# Altium footprint library plxtech.PCBLIB: 5 footprints
Each footprint in its own frame and in the unit in brackets; x right, y up, seen from the top. Pads: shape width x height; smd on the part's side, far side on the other; paste and mask are expansions set on the pad; w line width, h text height; cw(c..) or ccw(c..) is an arc to the next point about the centre after c.
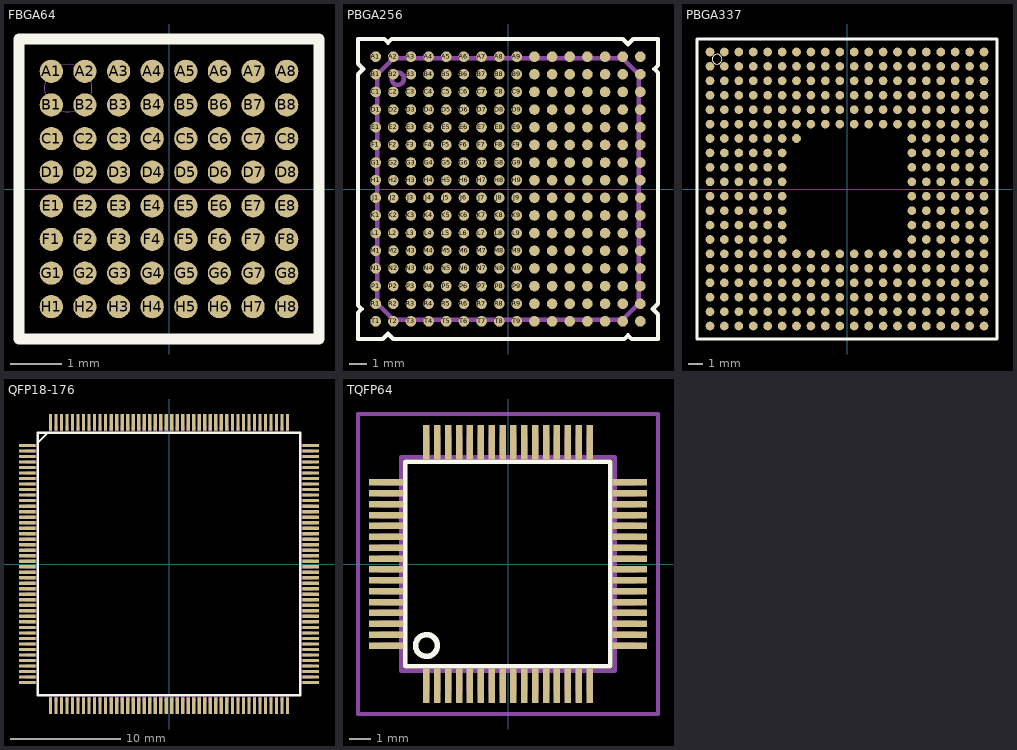
[diagram p0: the footprints below, top view; thin cyan lines are the x and y axes]

## FBGA64 [mm]
pads (64):
  rrect100% 0.45x0.45 smd: A1(-2.275,2.275) A2(-1.625,2.275) A3(-0.975,2.275) A4(-0.325,2.275) A5(0.325,2.275) A6(0.975,2.275) A7(1.625,2.275) A8(2.275,2.275) B1(-2.275,1.625) B2(-1.625,1.625) B3(-0.975,1.625) B4(-0.325,1.625) B5(0.325,1.625) B6(0.975,1.625) B7(1.625,1.625) B8(2.275,1.625) C1(-2.275,0.975) C2(-1.625,0.975) C3(-0.975,0.975) C4(-0.325,0.975) C5(0.325,0.975) C6(0.975,0.975) C7(1.625,0.975) C8(2.275,0.975) D1(-2.275,0.325) D2(-1.625,0.325) D3(-0.975,0.325) D4(-0.325,0.325) D5(0.325,0.325) D6(0.975,0.325) D7(1.625,0.325) D8(2.275,0.325) E1(-2.275,-0.325) E2(-1.625,-0.325) E3(-0.975,-0.325) E4(-0.325,-0.325) E5(0.325,-0.325) E6(0.975,-0.325) E7(1.625,-0.325) E8(2.275,-0.325) F1(-2.275,-0.975) F2(-1.625,-0.975) F3(-0.975,-0.975) F4(-0.325,-0.975) F5(0.325,-0.975) F6(0.975,-0.975) F7(1.625,-0.975) F8(2.275,-0.975) G1(-2.275,-1.625) G2(-1.625,-1.625) G3(-0.975,-1.625) G4(-0.325,-1.625) G5(0.325,-1.625) G6(0.975,-1.625) G7(1.625,-1.625) G8(2.275,-1.625) H1(-2.275,-2.275) H2(-1.625,-2.275) H3(-0.975,-2.275) H4(-0.325,-2.275) H5(0.325,-2.275) H6(0.975,-2.275) H7(1.625,-2.275) H8(2.275,-2.275)
Top Overlay:
  lines w0.203: -2.9,-2.9 2.9,-2.9 2.9,2.9 -2.9,2.9 -2.9,-2.9
Top Paste:
  circle w0: c-2.275,2.275 r0.175
  circle w0: c-2.275,1.625 r0.175
  circle w0: c-2.275,0.975 r0.175
  circle w0: c-2.275,0.325 r0.175
  circle w0: c-2.275,-0.325 r0.175
  circle w0: c-2.275,-0.975 r0.175
  circle w0: c-2.275,-1.625 r0.175
  circle w0: c-2.275,-2.275 r0.175
  circle w0: c-1.625,2.275 r0.175
  circle w0: c-1.625,1.625 r0.175
  circle w0: c-1.625,0.975 r0.175
  circle w0: c-1.625,0.325 r0.175
  circle w0: c-1.625,-0.325 r0.175
  circle w0: c-1.625,-0.975 r0.175
  circle w0: c-1.625,-1.625 r0.175
  circle w0: c-1.625,-2.275 r0.175
  circle w0: c-0.975,2.275 r0.175
  circle w0: c-0.975,1.625 r0.175
  circle w0: c-0.975,0.975 r0.175
  circle w0: c-0.975,0.325 r0.175
  circle w0: c-0.975,-0.325 r0.175
  circle w0: c-0.975,-0.975 r0.175
  circle w0: c-0.975,-1.625 r0.175
  circle w0: c-0.975,-2.275 r0.175
  circle w0: c-0.325,2.275 r0.175
  circle w0: c-0.325,1.625 r0.175
  circle w0: c-0.325,0.975 r0.175
  circle w0: c-0.325,0.325 r0.175
  circle w0: c-0.325,-0.325 r0.175
  circle w0: c-0.325,-0.975 r0.175
  circle w0: c-0.325,-1.625 r0.175
  circle w0: c-0.325,-2.275 r0.175
  circle w0: c0.325,2.275 r0.175
  circle w0: c0.325,1.625 r0.175
  circle w0: c0.325,0.975 r0.175
  circle w0: c0.325,0.325 r0.175
  circle w0: c0.325,-0.325 r0.175
  circle w0: c0.325,-0.975 r0.175
  circle w0: c0.325,-1.625 r0.175
  circle w0: c0.325,-2.275 r0.175
  circle w0: c0.975,2.275 r0.175
  circle w0: c0.975,1.625 r0.175
  circle w0: c0.975,0.975 r0.175
  circle w0: c0.975,0.325 r0.175
  circle w0: c0.975,-0.325 r0.175
  circle w0: c0.975,-0.975 r0.175
  circle w0: c0.975,-1.625 r0.175
  circle w0: c0.975,-2.275 r0.175
  circle w0: c1.625,2.275 r0.175
  circle w0: c1.625,1.625 r0.175
  circle w0: c1.625,0.975 r0.175
  circle w0: c1.625,0.325 r0.175
  circle w0: c1.625,-0.325 r0.175
  circle w0: c1.625,-0.975 r0.175
  circle w0: c1.625,-1.625 r0.175
  circle w0: c1.625,-2.275 r0.175
  circle w0: c2.275,2.275 r0.175
  circle w0: c2.275,1.625 r0.175
  circle w0: c2.275,0.975 r0.175
  circle w0: c2.275,0.325 r0.175
  circle w0: c2.275,-0.325 r0.175
  circle w0: c2.275,-0.975 r0.175
  circle w0: c2.275,-1.625 r0.175
  circle w0: c2.275,-2.275 r0.175
Top Solder:
  circle w0: c-2.275,2.275 r0.25
  circle w0: c-2.275,1.625 r0.25
  circle w0: c-2.275,0.975 r0.25
  circle w0: c-2.275,0.325 r0.25
  circle w0: c-2.275,-0.325 r0.25
  circle w0: c-2.275,-0.975 r0.25
  circle w0: c-2.275,-1.625 r0.25
  circle w0: c-2.275,-2.275 r0.25
  circle w0: c-1.625,2.275 r0.25
  circle w0: c-1.625,1.625 r0.25
  circle w0: c-1.625,0.975 r0.25
  circle w0: c-1.625,0.325 r0.25
  circle w0: c-1.625,-0.325 r0.25
  circle w0: c-1.625,-0.975 r0.25
  circle w0: c-1.625,-1.625 r0.25
  circle w0: c-1.625,-2.275 r0.25
  circle w0: c-0.975,2.275 r0.25
  circle w0: c-0.975,1.625 r0.25
  circle w0: c-0.975,0.975 r0.25
  circle w0: c-0.975,0.325 r0.25
  circle w0: c-0.975,-0.325 r0.25
  circle w0: c-0.975,-0.975 r0.25
  circle w0: c-0.975,-1.625 r0.25
  circle w0: c-0.975,-2.275 r0.25
  circle w0: c-0.325,2.275 r0.25
  circle w0: c-0.325,1.625 r0.25
  circle w0: c-0.325,0.975 r0.25
  circle w0: c-0.325,0.325 r0.25
  circle w0: c-0.325,-0.325 r0.25
  circle w0: c-0.325,-0.975 r0.25
  circle w0: c-0.325,-1.625 r0.25
  circle w0: c-0.325,-2.275 r0.25
  circle w0: c0.325,2.275 r0.25
  circle w0: c0.325,1.625 r0.25
  circle w0: c0.325,0.975 r0.25
  circle w0: c0.325,0.325 r0.25
  circle w0: c0.325,-0.325 r0.25
  circle w0: c0.325,-0.975 r0.25
  circle w0: c0.325,-1.625 r0.25
  circle w0: c0.325,-2.275 r0.25
  circle w0: c0.975,2.275 r0.25
  circle w0: c0.975,1.625 r0.25
  circle w0: c0.975,0.975 r0.25
  circle w0: c0.975,0.325 r0.25
  circle w0: c0.975,-0.325 r0.25
  circle w0: c0.975,-0.975 r0.25
  circle w0: c0.975,-1.625 r0.25
  circle w0: c0.975,-2.275 r0.25
  circle w0: c1.625,2.275 r0.25
  circle w0: c1.625,1.625 r0.25
  circle w0: c1.625,0.975 r0.25
  circle w0: c1.625,0.325 r0.25
  circle w0: c1.625,-0.325 r0.25
  circle w0: c1.625,-0.975 r0.25
  circle w0: c1.625,-1.625 r0.25
  circle w0: c1.625,-2.275 r0.25
  circle w0: c2.275,2.275 r0.25
  circle w0: c2.275,1.625 r0.25
  circle w0: c2.275,0.975 r0.25
  circle w0: c2.275,0.325 r0.25
  circle w0: c2.275,-0.325 r0.25
  circle w0: c2.275,-0.975 r0.25
  circle w0: c2.275,-1.625 r0.25
  circle w0: c2.275,-2.275 r0.25
Mechanical 16:
  circle w0: c-1.95,1.95 r0.459

## PBGA256 [mm]
pads (256):
  rrect100% 0.6x0.6 smd: A1(-7.5,7.5) A2(-6.5,7.5) A3(-5.5,7.5) A4(-4.5,7.5) A5(-3.5,7.5) A6(-2.5,7.5) A7(-1.5,7.5) A8(-0.5,7.5) A9(0.5,7.5) A10(1.5,7.5) A11(2.5,7.5) A12(3.5,7.5) A13(4.5,7.5) A14(5.5,7.5) A15(6.5,7.5) A16(7.5,7.5) B1(-7.5,6.5) B2(-6.5,6.5) B3(-5.5,6.5) B4(-4.5,6.5) B5(-3.5,6.5) B6(-2.5,6.5) B7(-1.5,6.5) B8(-0.5,6.5) B9(0.5,6.5) B10(1.5,6.5) B11(2.5,6.5) B12(3.5,6.5) B13(4.5,6.5) B14(5.5,6.5) B15(6.5,6.5) B16(7.5,6.5) C1(-7.5,5.5) C2(-6.5,5.5) C3(-5.5,5.5) C4(-4.5,5.5) C5(-3.5,5.5) C6(-2.5,5.5) C7(-1.5,5.5) C8(-0.5,5.5) C9(0.5,5.5) C10(1.5,5.5) C11(2.5,5.5) C12(3.5,5.5) C13(4.5,5.5) C14(5.5,5.5) C15(6.5,5.5) C16(7.5,5.5) D1(-7.5,4.5) D2(-6.5,4.5) D3(-5.5,4.5) D4(-4.5,4.5) D5(-3.5,4.5) D6(-2.5,4.5) D7(-1.5,4.5) D8(-0.5,4.5) D9(0.5,4.5) D10(1.5,4.5) D11(2.5,4.5) D12(3.5,4.5) D13(4.5,4.5) D14(5.5,4.5) D15(6.5,4.5) D16(7.5,4.5) E1(-7.5,3.5) E2(-6.5,3.5) E3(-5.5,3.5) E4(-4.5,3.5) E5(-3.5,3.5) E6(-2.5,3.5) E7(-1.5,3.5) E8(-0.5,3.5) E9(0.5,3.5) E10(1.5,3.5) E11(2.5,3.5) E12(3.5,3.5) E13(4.5,3.5) E14(5.5,3.5) E15(6.5,3.5) E16(7.5,3.5) F1(-7.5,2.5) F2(-6.5,2.5) F3(-5.5,2.5) F4(-4.5,2.5) F5(-3.5,2.5) F6(-2.5,2.5) F7(-1.5,2.5) F8(-0.5,2.5) F9(0.5,2.5) F10(1.5,2.5) F11(2.5,2.5) F12(3.5,2.5) F13(4.5,2.5) F14(5.5,2.5) F15(6.5,2.5) F16(7.5,2.5) G1(-7.5,1.5) G2(-6.5,1.5) G3(-5.5,1.5) G4(-4.5,1.5) G5(-3.5,1.5) G6(-2.5,1.5) G7(-1.5,1.5) G8(-0.5,1.5) G9(0.5,1.5) G10(1.5,1.5) G11(2.5,1.5) G12(3.5,1.5) G13(4.5,1.5) G14(5.5,1.5) G15(6.5,1.5) G16(7.5,1.5) H1(-7.5,0.5) H2(-6.5,0.5) H3(-5.5,0.5) H4(-4.5,0.5) H5(-3.5,0.5) H6(-2.5,0.5) H7(-1.5,0.5) H8(-0.5,0.5) H9(0.5,0.5) H10(1.5,0.5) H11(2.5,0.5) H12(3.5,0.5) H13(4.5,0.5) H14(5.5,0.5) H15(6.5,0.5) H16(7.5,0.5) J1(-7.5,-0.5) J2(-6.5,-0.5) J3(-5.5,-0.5) J4(-4.5,-0.5) J5(-3.5,-0.5) J6(-2.5,-0.5) J7(-1.5,-0.5) J8(-0.5,-0.5) J9(0.5,-0.5) J10(1.5,-0.5) J11(2.5,-0.5) J12(3.5,-0.5) J13(4.5,-0.5) J14(5.5,-0.5) J15(6.5,-0.5) J16(7.5,-0.5) K1(-7.5,-1.5) K2(-6.5,-1.5) K3(-5.5,-1.5) K4(-4.5,-1.5) K5(-3.5,-1.5) K6(-2.5,-1.5) K7(-1.5,-1.5) K8(-0.5,-1.5) K9(0.5,-1.5) K10(1.5,-1.5) K11(2.5,-1.5) K12(3.5,-1.5) K13(4.5,-1.5) K14(5.5,-1.5) K15(6.5,-1.5) K16(7.5,-1.5) L1(-7.5,-2.5) L2(-6.5,-2.5) L3(-5.5,-2.5) L4(-4.5,-2.5) L5(-3.5,-2.5) L6(-2.5,-2.5) L7(-1.5,-2.5) L8(-0.5,-2.5) L9(0.5,-2.5) L10(1.5,-2.5) L11(2.5,-2.5) L12(3.5,-2.5) L13(4.5,-2.5) L14(5.5,-2.5) L15(6.5,-2.5) L16(7.5,-2.5) M1(-7.5,-3.5) M2(-6.5,-3.5) M3(-5.5,-3.5) M4(-4.5,-3.5) M5(-3.5,-3.5) M6(-2.5,-3.5) M7(-1.5,-3.5) M8(-0.5,-3.5) M9(0.5,-3.5) M10(1.5,-3.5) M11(2.5,-3.5) M12(3.5,-3.5) M13(4.5,-3.5) M14(5.5,-3.5) M15(6.5,-3.5) M16(7.5,-3.5) N1(-7.5,-4.5) N2(-6.5,-4.5) N3(-5.5,-4.5) N4(-4.5,-4.5) N5(-3.5,-4.5) N6(-2.5,-4.5) N7(-1.5,-4.5) N8(-0.5,-4.5) N9(0.5,-4.5) N10(1.5,-4.5) N11(2.5,-4.5) N12(3.5,-4.5) N13(4.5,-4.5) N14(5.5,-4.5) N15(6.5,-4.5) N16(7.5,-4.5) P1(-7.5,-5.5) P2(-6.5,-5.5) P3(-5.5,-5.5) P4(-4.5,-5.5) P5(-3.5,-5.5) P6(-2.5,-5.5) P7(-1.5,-5.5) P8(-0.5,-5.5) P9(0.5,-5.5) P10(1.5,-5.5) P11(2.5,-5.5) P12(3.5,-5.5) P13(4.5,-5.5) P14(5.5,-5.5) P15(6.5,-5.5) P16(7.5,-5.5) R1(-7.5,-6.5) R2(-6.5,-6.5) R3(-5.5,-6.5) R4(-4.5,-6.5) R5(-3.5,-6.5) R6(-2.5,-6.5) R7(-1.5,-6.5) R8(-0.5,-6.5) R9(0.5,-6.5) R10(1.5,-6.5) R11(2.5,-6.5) R12(3.5,-6.5) R13(4.5,-6.5) R14(5.5,-6.5) R15(6.5,-6.5) R16(7.5,-6.5) T1(-7.5,-7.5) T2(-6.5,-7.5) T3(-5.5,-7.5) T4(-4.5,-7.5) T5(-3.5,-7.5) T6(-2.5,-7.5) T7(-1.5,-7.5) T8(-0.5,-7.5) T9(0.5,-7.5) T10(1.5,-7.5) T11(2.5,-7.5) T12(3.5,-7.5) T13(4.5,-7.5) T14(5.5,-7.5) T15(6.5,-7.5) T16(7.5,-7.5)
Top Overlay:
  lines w0.254: -8.5,-8.5 -8.5,-7 -8.3,-6.8 -8.5,-6.6 -8.5,6.5 -8.2,6.8 -8.5,7.1 -8.5,8.5 -7,8.5 -6.8,8.3 -6.6,8.5 6.5,8.5 6.8,8.2 7.1,8.5 8.5,8.5 8.5,7 8.3,6.8 8.5,6.6 8.5,-6.5 8.2,-6.8 8.5,-7.1 8.5,-8.5 7,-8.5 6.8,-8.3 6.6,-8.5 -6.5,-8.5 -6.8,-8.2 -7.1,-8.5 -8.5,-8.5
Mechanical 16:
  circle w0.254: c-6.25,6.25 r0.354
  lines w0.254: -7.4,-6.5 -6.5,-7.4 6.5,-7.4 7.4,-6.5 7.4,6.5 6.5,7.4 -6.5,7.4 -7.4,6.5 -7.4,-6.5

## PBGA337 [mm]
pads (337):
  rrect100% 0.6x0.6 smd: A1(-9.5,9.5) A2(-8.5,9.5) A3(-7.5,9.5) A4(-6.5,9.5) A5(-5.5,9.5) A6(-4.5,9.5) A7(-3.5,9.5) A8(-2.5,9.5) A9(-1.5,9.5) A10(-0.5,9.5) A11(0.5,9.5) A12(1.5,9.5) A13(2.5,9.5) A14(3.5,9.5) A15(4.5,9.5) A16(5.5,9.5) A17(6.5,9.5) A18(7.5,9.5) A19(8.5,9.5) A20(9.5,9.5) B1(-9.5,8.5) B2(-8.5,8.5) B3(-7.5,8.5) B4(-6.5,8.5) B5(-5.5,8.5) B6(-4.5,8.5) B7(-3.5,8.5) B8(-2.5,8.5) B9(-1.5,8.5) B10(-0.5,8.5) B11(0.5,8.5) B12(1.5,8.5) B13(2.5,8.5) B14(3.5,8.5) B15(4.5,8.5) B16(5.5,8.5) B17(6.5,8.5) B18(7.5,8.5) B19(8.5,8.5) B20(9.5,8.5) C1(-9.5,7.5) C2(-8.5,7.5) C3(-7.5,7.5) C4(-6.5,7.5) C5(-5.5,7.5) C6(-4.5,7.5) C7(-3.5,7.5) C8(-2.5,7.5) C9(-1.5,7.5) C10(-0.5,7.5) C11(0.5,7.5) C12(1.5,7.5) C13(2.5,7.5) C14(3.5,7.5) C15(4.5,7.5) C16(5.5,7.5) C17(6.5,7.5) C18(7.5,7.5) C19(8.5,7.5) C20(9.5,7.5) D1(-9.5,6.5) D2(-8.5,6.5) D3(-7.5,6.5) D4(-6.5,6.5) D5(-5.5,6.5) D6(-4.5,6.5) D7(-3.5,6.5) D8(-2.5,6.5) D9(-1.5,6.5) D10(-0.5,6.5) D11(0.5,6.5) D12(1.5,6.5) D13(2.5,6.5) D14(3.5,6.5) D15(4.5,6.5) D16(5.5,6.5) D17(6.5,6.5) D18(7.5,6.5) D19(8.5,6.5) D20(9.5,6.5) E1(-9.5,5.5) E2(-8.5,5.5) E3(-7.5,5.5) E4(-6.5,5.5) E5(-5.5,5.5) E6(-4.5,5.5) E7(-3.5,5.5) E8(-2.5,5.5) E9(-1.5,5.5) E10(-0.5,5.5) E11(0.5,5.5) E12(1.5,5.5) E13(2.5,5.5) E14(3.5,5.5) E15(4.5,5.5) E16(5.5,5.5) E17(6.5,5.5) E18(7.5,5.5) E19(8.5,5.5) E20(9.5,5.5) F1(-9.5,4.5) F2(-8.5,4.5) F3(-7.5,4.5) F4(-6.5,4.5) F5(-5.5,4.5) F6(-4.5,4.5) F7(-3.5,4.5) F8(-2.5,4.5) F9(-1.5,4.5) F10(-0.5,4.5) F11(0.5,4.5) F12(1.5,4.5) F13(2.5,4.5) F14(3.5,4.5) F15(4.5,4.5) F16(5.5,4.5) F17(6.5,4.5) F18(7.5,4.5) F19(8.5,4.5) F20(9.5,4.5) G1(-9.5,3.5) G2(-8.5,3.5) G3(-7.5,3.5) G4(-6.5,3.5) G5(-5.5,3.5) G6(-4.5,3.5) G7(-3.5,3.5) G15(4.5,3.5) G16(5.5,3.5) G17(6.5,3.5) G18(7.5,3.5) G19(8.5,3.5) G20(9.5,3.5) H1(-9.5,2.5) H2(-8.5,2.5) H3(-7.5,2.5) H4(-6.5,2.5) H5(-5.5,2.5) H6(-4.5,2.5) H15(4.5,2.5) H16(5.5,2.5) H17(6.5,2.5) H18(7.5,2.5) H19(8.5,2.5) H20(9.5,2.5) J1(-9.5,1.5) J2(-8.5,1.5) J3(-7.5,1.5) J4(-6.5,1.5) J5(-5.5,1.5) J6(-4.5,1.5) J15(4.5,1.5) J16(5.5,1.5) J17(6.5,1.5) J18(7.5,1.5) J19(8.5,1.5) J20(9.5,1.5) K1(-9.5,0.5) K2(-8.5,0.5) K3(-7.5,0.5) K4(-6.5,0.5) K5(-5.5,0.5) K6(-4.5,0.5) K15(4.5,0.5) K16(5.5,0.5) K17(6.5,0.5) K18(7.5,0.5) K19(8.5,0.5) K20(9.5,0.5) L1(-9.5,-0.5) L2(-8.5,-0.5) L3(-7.5,-0.5) L4(-6.5,-0.5) L5(-5.5,-0.5) L6(-4.5,-0.5) L15(4.5,-0.5) L16(5.5,-0.5) L17(6.5,-0.5) L18(7.5,-0.5) L19(8.5,-0.5) L20(9.5,-0.5) M1(-9.5,-1.5) M2(-8.5,-1.5) M3(-7.5,-1.5) M4(-6.5,-1.5) M5(-5.5,-1.5) M6(-4.5,-1.5) M15(4.5,-1.5) M16(5.5,-1.5) M17(6.5,-1.5) M18(7.5,-1.5) M19(8.5,-1.5) M20(9.5,-1.5) N1(-9.5,-2.5) N2(-8.5,-2.5) N3(-7.5,-2.5) N4(-6.5,-2.5) N5(-5.5,-2.5) N6(-4.5,-2.5) N15(4.5,-2.5) N16(5.5,-2.5) N17(6.5,-2.5) N18(7.5,-2.5) N19(8.5,-2.5) N20(9.5,-2.5) P1(-9.5,-3.5) P2(-8.5,-3.5) P3(-7.5,-3.5) P4(-6.5,-3.5) P5(-5.5,-3.5) P6(-4.5,-3.5) P15(4.5,-3.5) P16(5.5,-3.5) P17(6.5,-3.5) P18(7.5,-3.5) P19(8.5,-3.5) P20(9.5,-3.5) R1(-9.5,-4.5) R2(-8.5,-4.5) R3(-7.5,-4.5) R4(-6.5,-4.5) R5(-5.5,-4.5) R6(-4.5,-4.5) R7(-3.5,-4.5) R8(-2.5,-4.5) R9(-1.5,-4.5) R10(-0.5,-4.5) R11(0.5,-4.5) R12(1.5,-4.5) R13(2.5,-4.5) R14(3.5,-4.5) R15(4.5,-4.5) R16(5.5,-4.5) R17(6.5,-4.5) R18(7.5,-4.5) R19(8.5,-4.5) R20(9.5,-4.5) T1(-9.5,-5.5) T2(-8.5,-5.5) T3(-7.5,-5.5) T4(-6.5,-5.5) T5(-5.5,-5.5) T6(-4.5,-5.5) T7(-3.5,-5.5) T8(-2.5,-5.5) T9(-1.5,-5.5) T10(-0.5,-5.5) T11(0.5,-5.5) T12(1.5,-5.5) T13(2.5,-5.5) T14(3.5,-5.5) T15(4.5,-5.5) T16(5.5,-5.5) T17(6.5,-5.5) T18(7.5,-5.5) T19(8.5,-5.5) T20(9.5,-5.5) U1(-9.5,-6.5) U2(-8.5,-6.5) U3(-7.5,-6.5) U4(-6.5,-6.5) U5(-5.5,-6.5) U6(-4.5,-6.5) U7(-3.5,-6.5) U8(-2.5,-6.5) U9(-1.5,-6.5) U10(-0.5,-6.5) U11(0.5,-6.5) U12(1.5,-6.5) U13(2.5,-6.5) U14(3.5,-6.5) U15(4.5,-6.5) U16(5.5,-6.5) U17(6.5,-6.5) U18(7.5,-6.5) U19(8.5,-6.5) U20(9.5,-6.5) V1(-9.5,-7.5) V2(-8.5,-7.5) V3(-7.5,-7.5) V4(-6.5,-7.5) V5(-5.5,-7.5) V6(-4.5,-7.5) V7(-3.5,-7.5) V8(-2.5,-7.5) V9(-1.5,-7.5) V10(-0.5,-7.5) V11(0.5,-7.5) V12(1.5,-7.5) V13(2.5,-7.5) V14(3.5,-7.5) V15(4.5,-7.5) V16(5.5,-7.5) V17(6.5,-7.5) V18(7.5,-7.5) V19(8.5,-7.5) V20(9.5,-7.5) W1(-9.5,-8.5) W2(-8.5,-8.5) W3(-7.5,-8.5) W4(-6.5,-8.5) W5(-5.5,-8.5) W6(-4.5,-8.5) W7(-3.5,-8.5) W8(-2.5,-8.5) W9(-1.5,-8.5) W10(-0.5,-8.5) W11(0.5,-8.5) W12(1.5,-8.5) W13(2.5,-8.5) W14(3.5,-8.5) W15(4.5,-8.5) W16(5.5,-8.5) W17(6.5,-8.5) W18(7.5,-8.5) W19(8.5,-8.5) W20(9.5,-8.5) Y1(-9.5,-9.5) Y2(-8.5,-9.5) Y3(-7.5,-9.5) Y4(-6.5,-9.5) Y5(-5.5,-9.5) Y6(-4.5,-9.5) Y7(-3.5,-9.5) Y8(-2.5,-9.5) Y9(-1.5,-9.5) Y10(-0.5,-9.5) Y11(0.5,-9.5) Y12(1.5,-9.5) Y13(2.5,-9.5) Y14(3.5,-9.5) Y15(4.5,-9.5) Y16(5.5,-9.5) Y17(6.5,-9.5) Y18(7.5,-9.5) Y19(8.5,-9.5) Y20(9.5,-9.5)
Top Overlay:
  circle w0: c-9,9 r0.336
  lines w0.203: -10.4,-10.4 -10.4,10.4 10.4,10.4 10.4,-10.4 -10.4,-10.4
Top Paste:
  drawing of 337 lines, arcs and shapes, not listed
Top Solder:
  drawing of 337 lines, arcs and shapes, not listed

## QFP18-176 [mm]
pads (176):
  rect 1.5x0.3 smd: 1(-12.85,10.75) 2(-12.85,10.25) 3(-12.85,9.75) 4(-12.85,9.25) 5(-12.85,8.75) 6(-12.85,8.25) 7(-12.85,7.75) 8(-12.85,7.25) 9(-12.85,6.75) 10(-12.85,6.25) 11(-12.85,5.75) 12(-12.85,5.25) 13(-12.85,4.75) 14(-12.85,4.25) 15(-12.85,3.75) 16(-12.85,3.25) 17(-12.85,2.75) 18(-12.85,2.25) 19(-12.85,1.75) 20(-12.85,1.25) 21(-12.85,0.75) 22(-12.85,0.25) 23(-12.85,-0.25) 24(-12.85,-0.75) 25(-12.85,-1.25) 26(-12.85,-1.75) 27(-12.85,-2.25) 28(-12.85,-2.75) 29(-12.85,-3.25) 30(-12.85,-3.75) 31(-12.85,-4.25) 32(-12.85,-4.75) 33(-12.85,-5.25) 34(-12.85,-5.75) 35(-12.85,-6.25) 36(-12.85,-6.75) 37(-12.85,-7.25) 38(-12.85,-7.75) 39(-12.85,-8.25) 40(-12.85,-8.75) 41(-12.85,-9.25) 42(-12.85,-9.75) 43(-12.85,-10.25) 44(-12.85,-10.75) 89(12.85,-10.75) 90(12.85,-10.25) 91(12.85,-9.75) 92(12.85,-9.25) 93(12.85,-8.75) 94(12.85,-8.25) 95(12.85,-7.75) 96(12.85,-7.25) 97(12.85,-6.75) 98(12.85,-6.25) 99(12.85,-5.75) 100(12.85,-5.25) 101(12.85,-4.75) 102(12.85,-4.25) 103(12.85,-3.75) 104(12.85,-3.25) 105(12.85,-2.75) 106(12.85,-2.25) 107(12.85,-1.75) 108(12.85,-1.25) 109(12.85,-0.75) 110(12.85,-0.25) 111(12.85,0.25) 112(12.85,0.75) 113(12.85,1.25) 114(12.85,1.75) 115(12.85,2.25) 116(12.85,2.75) 117(12.85,3.25) 118(12.85,3.75) 119(12.85,4.25) 120(12.85,4.75) 121(12.85,5.25) 122(12.85,5.75) 123(12.85,6.25) 124(12.85,6.75) 125(12.85,7.25) 126(12.85,7.75) 127(12.85,8.25) 128(12.85,8.75) 129(12.85,9.25) 130(12.85,9.75) 131(12.85,10.25) 132(12.85,10.75)
  rect 0.3x1.5 smd: 45(-10.75,-12.85) 46(-10.25,-12.85) 47(-9.75,-12.85) 48(-9.25,-12.85) 49(-8.75,-12.85) 50(-8.25,-12.85) 51(-7.75,-12.85) 52(-7.25,-12.85) 53(-6.75,-12.85) 54(-6.25,-12.85) 55(-5.75,-12.85) 56(-5.25,-12.85) 57(-4.75,-12.85) 58(-4.25,-12.85) 59(-3.75,-12.85) 60(-3.25,-12.85) 61(-2.75,-12.85) 62(-2.25,-12.85) 63(-1.75,-12.85) 64(-1.25,-12.85) 65(-0.75,-12.85) 66(-0.25,-12.85) 67(0.25,-12.85) 68(0.75,-12.85) 69(1.25,-12.85) 70(1.75,-12.85) 71(2.25,-12.85) 72(2.75,-12.85) 73(3.25,-12.85) 74(3.75,-12.85) 75(4.25,-12.85) 76(4.75,-12.85) 77(5.25,-12.85) 78(5.75,-12.85) 79(6.25,-12.85) 80(6.75,-12.85) 81(7.25,-12.85) 82(7.75,-12.85) 83(8.25,-12.85) 84(8.75,-12.85) 85(9.25,-12.85) 86(9.75,-12.85) 87(10.25,-12.85) 88(10.75,-12.85) 133(10.75,12.85) 134(10.25,12.85) 135(9.75,12.85) 136(9.25,12.85) 137(8.75,12.85) 138(8.25,12.85) 139(7.75,12.85) 140(7.25,12.85) 141(6.75,12.85) 142(6.25,12.85) 143(5.75,12.85) 144(5.25,12.85) 145(4.75,12.85) 146(4.25,12.85) 147(3.75,12.85) 148(3.25,12.85) 149(2.75,12.85) 150(2.25,12.85) 151(1.75,12.85) 152(1.25,12.85) 153(0.75,12.85) 154(0.25,12.85) 155(-0.25,12.85) 156(-0.75,12.85) 157(-1.25,12.85) 158(-1.75,12.85) 159(-2.25,12.85) 160(-2.75,12.85) 161(-3.25,12.85) 162(-3.75,12.85) 163(-4.25,12.85) 164(-4.75,12.85) 165(-5.25,12.85) 166(-5.75,12.85) 167(-6.25,12.85) 168(-6.75,12.85) 169(-7.25,12.85) 170(-7.75,12.85) 171(-8.25,12.85) 172(-8.75,12.85) 173(-9.25,12.85) 174(-9.75,12.85) 175(-10.25,12.85) 176(-10.75,12.85)
Top Overlay:
  lines w0.203: -11.898,11 -11,11.898 ; -11.898,-11.898 11.898,-11.898 11.898,11.898 -11.898,11.898 -11.898,-11.898
Mechanical 16:
  drawing of 176 lines, arcs and shapes, not listed

## TQFP64 [mm]
pads (64):
  rect 0.3x1.6 smd: 1(-3.75,-5.6) 2(-3.25,-5.6) 3(-2.75,-5.6) 4(-2.25,-5.6) 5(-1.75,-5.6) 6(-1.25,-5.6) 7(-0.75,-5.6) 8(-0.25,-5.6) 9(0.25,-5.6) 10(0.75,-5.6) 11(1.25,-5.6) 12(1.75,-5.6) 13(2.25,-5.6) 14(2.75,-5.6) 15(3.25,-5.6) 16(3.75,-5.6) 33(3.75,5.6) 34(3.25,5.6) 35(2.75,5.6) 36(2.25,5.6) 37(1.75,5.6) 38(1.25,5.6) 39(0.75,5.6) 40(0.25,5.6) 41(-0.25,5.6) 42(-0.75,5.6) 43(-1.25,5.6) 44(-1.75,5.6) 45(-2.25,5.6) 46(-2.75,5.6) 47(-3.25,5.6) 48(-3.75,5.6)
  rect 1.6x0.3 smd: 17(5.6,-3.75) 18(5.6,-3.25) 19(5.6,-2.75) 20(5.6,-2.25) 21(5.6,-1.75) 22(5.6,-1.25) 23(5.6,-0.75) 24(5.6,-0.25) 25(5.6,0.25) 26(5.6,0.75) 27(5.6,1.25) 28(5.6,1.75) 29(5.6,2.25) 30(5.6,2.75) 31(5.6,3.25) 32(5.6,3.75) 49(-5.6,3.75) 50(-5.6,3.25) 51(-5.6,2.75) 52(-5.6,2.25) 53(-5.6,1.75) 54(-5.6,1.25) 55(-5.6,0.75) 56(-5.6,0.25) 57(-5.6,-0.25) 58(-5.6,-0.75) 59(-5.6,-1.25) 60(-5.6,-1.75) 61(-5.6,-2.25) 62(-5.6,-2.75) 63(-5.6,-3.25) 64(-5.6,-3.75)
Top Overlay:
  circle w0.254: c-3.75,-3.75 r0.5
  lines w0.203: -4.72,-4.71 4.71,-4.71 4.71,4.71 -4.72,4.71 -4.72,-4.71
Mechanical 16:
  rectangle: -3.9,-5.9 -3.6,-4.95
  rectangle: -3.4,-5.9 -3.1,-4.95
  rectangle: -2.9,-5.9 -2.6,-4.95
  rectangle: -2.4,-5.9 -2.1,-4.95
  rectangle: -1.9,-5.9 -1.6,-4.95
  rectangle: -1.4,-5.9 -1.1,-4.95
  rectangle: -0.9,-5.9 -0.6,-4.95
  rectangle: -0.4,-5.9 -0.1,-4.95
  rectangle: 0.1,-5.9 0.4,-4.95
  rectangle: 0.6,-5.9 0.9,-4.95
  rectangle: 1.1,-5.9 1.4,-4.95
  rectangle: 1.6,-5.9 1.9,-4.95
  rectangle: 2.1,-5.9 2.4,-4.95
  rectangle: 2.6,-5.9 2.9,-4.95
  rectangle: 3.1,-5.9 3.4,-4.95
  rectangle: 3.6,-5.9 3.9,-4.95
  rectangle: 4.95,-3.9 5.9,-3.6
  rectangle: 4.95,-3.4 5.9,-3.1
  rectangle: 4.95,-2.9 5.9,-2.6
  rectangle: 4.95,-2.4 5.9,-2.1
  rectangle: 4.95,-1.9 5.9,-1.6
  rectangle: 4.95,-1.4 5.9,-1.1
  rectangle: 4.95,-0.9 5.9,-0.6
  rectangle: 4.95,-0.4 5.9,-0.1
  rectangle: 4.95,0.1 5.9,0.4
  rectangle: 4.95,0.6 5.9,0.9
  rectangle: 4.95,1.1 5.9,1.4
  rectangle: 4.95,1.6 5.9,1.9
  rectangle: 4.95,2.1 5.9,2.4
  rectangle: 4.95,2.6 5.9,2.9
  rectangle: 4.95,3.1 5.9,3.4
  rectangle: 4.95,3.6 5.9,3.9
  rectangle: 3.6,4.95 3.9,5.9
  rectangle: 3.1,4.95 3.4,5.9
  rectangle: 2.6,4.95 2.9,5.9
  rectangle: 2.1,4.95 2.4,5.9
  rectangle: 1.6,4.95 1.9,5.9
  rectangle: 1.1,4.95 1.4,5.9
  rectangle: 0.6,4.95 0.9,5.9
  rectangle: 0.1,4.95 0.4,5.9
  rectangle: -0.4,4.95 -0.1,5.9
  rectangle: -0.9,4.95 -0.6,5.9
  rectangle: -1.4,4.95 -1.1,5.9
  rectangle: -1.9,4.95 -1.6,5.9
  rectangle: -2.4,4.95 -2.1,5.9
  rectangle: -2.9,4.95 -2.6,5.9
  rectangle: -3.4,4.95 -3.1,5.9
  rectangle: -3.9,4.95 -3.6,5.9
  rectangle: -5.9,3.6 -4.95,3.9
  rectangle: -5.9,3.1 -4.95,3.4
  rectangle: -5.9,2.6 -4.95,2.9
  rectangle: -5.9,2.1 -4.95,2.4
  rectangle: -5.9,1.6 -4.95,1.9
  rectangle: -5.9,1.1 -4.95,1.4
  rectangle: -5.9,0.6 -4.95,0.9
  rectangle: -5.9,0.1 -4.95,0.4
  rectangle: -5.9,-0.4 -4.95,-0.1
  rectangle: -5.9,-0.9 -4.95,-0.6
  rectangle: -5.9,-1.4 -4.95,-1.1
  rectangle: -5.9,-1.9 -4.95,-1.6
  rectangle: -5.9,-2.4 -4.95,-2.1
  rectangle: -5.9,-2.9 -4.95,-2.6
  rectangle: -5.9,-3.4 -4.95,-3.1
  rectangle: -5.9,-3.9 -4.95,-3.6
  lines w0.203: -4.91,-4.91 4.91,-4.91 4.91,4.91 -4.91,4.91 -4.91,-4.91
Mechanical 27:
  lines w0.2: -6.9,-6.9 -6.9,6.9 6.9,6.9 6.9,-6.9 -6.9,-6.9